# Altium footprint library BARR_4DB-P108-03.PcbLib: 1 footprints
Each footprint in its own frame and in the unit in brackets; x right, y up, seen from the top. Pads: shape width x height; smd on the part's side, far side on the other; paste and mask are expansions set on the pad; w line width, h text height; cw(c..) or ccw(c..) is an arc to the next point about the centre after c.
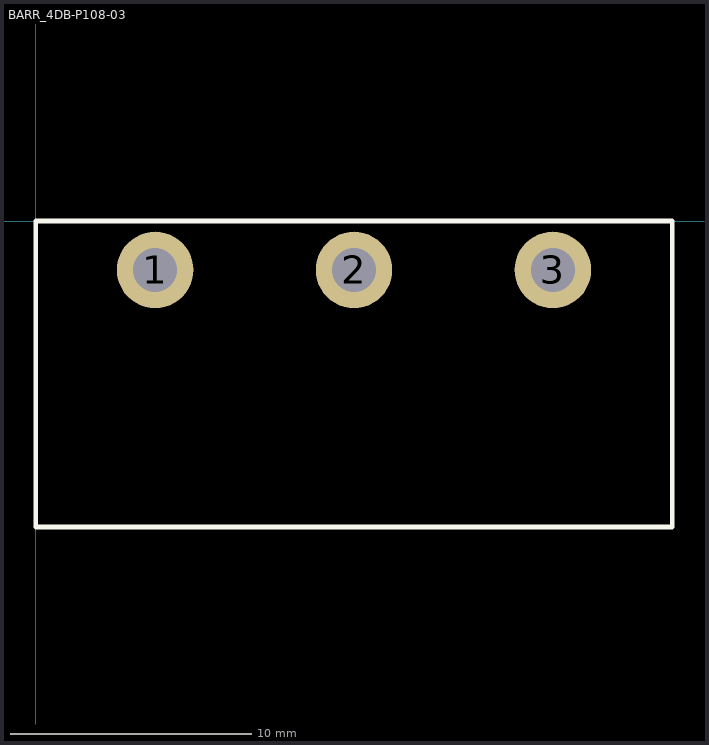
[diagram p0: the footprint, top view; thin cyan lines are the x and y axes]

## BARR_4DB-P108-03 [mil] "TE Connectivity 4DB-P108-03"
pads (3):
  round 125 hole 72: 1(195,-80) 2(520,-80) 3(845,-80)
Top Overlay:
  lines w7.87: 0,-500 0,0 1040,0 1040,-500 0,-500